# Altium integrated library Dallas Communication ADPCM Processor.IntLib: 4 symbols
Pins are listed as number, name and electrical type; pins without a type are passive.

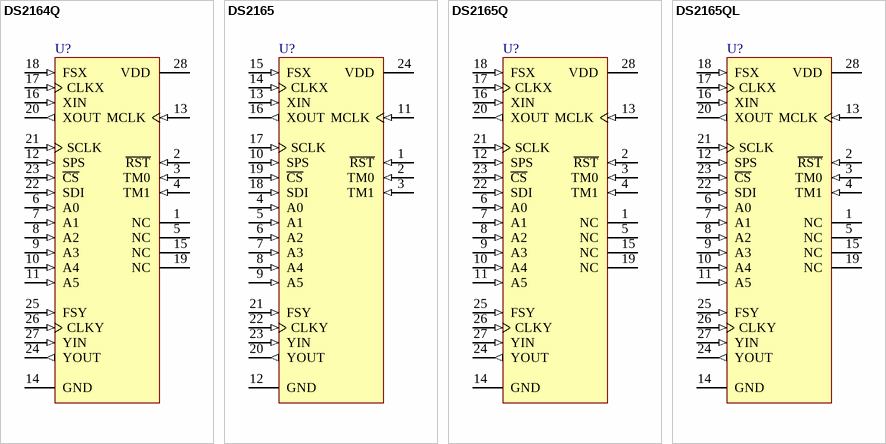
[diagram p0: symbols DS2164Q to DS2165QL]

## DS2164Q
designator U?
G.726 ADPCM Processor; Note: Pin numbers 1, 5, 15 and 19 are Not Connected (NC); Published: 13-Oct-2000; LatestRevisionDate: 13-Apr-2006; LatestRevisionNote: IPC-7351 Footprint Added.; DatasheetVersion: 26-Feb-1998; PackageVersion: Rev D, Feb-2006; PackageReference: PLCC28; Publisher: Altium Limited; PackageDescription: 28-Pin Leaded Chip Carrier 1.27 mm Pitch; Code_IPC: PLCC-28; ComponentLink1Description: Manufacturer Link; ComponentLink1URL: http://www.maxim-ic.com/; ComponentLink2Description: Datasheet; ComponentLink2URL: http://pdfserv.maxim-ic.com/en/ds/DS2164Q.pdf
footprint PLCC28_N (Leaded Chip Carrier, 28-Leads, Body 11.5x11.5mm, Pitch 1.27mm, IPC Medium Density)
footprint PLCC28_L (Leaded Chip Carrier, 28-Leads, Body 11.5x11.5mm, Pitch 1.27mm, IPC High Density)
footprint PLCC28_M (Leaded Chip Carrier, 28-Leads, Body 11.5x11.5mm, Pitch 1.27mm, IPC Low Density)
pins: 1 NC, 2 ~{RST} (in), 3 TM0 (in), 4 TM1 (in), 5 NC, 6 A0 (in), 7 A1 (in), 8 A2 (in), 9 A3 (in), 10 A4 (in), 11 A5 (in), 12 SPS (in), 13 MCLK (in), 14 GND (power), 15 NC, 16 XIN (in), 17 CLKX (in), 18 FSX (in), 19 NC, 20 XOUT (out), 21 SCLK (in), 22 SDI (in), 23 ~{CS} (in), 24 YOUT (out), 25 FSY (in), 26 CLKY (in), 27 YIN (in), 28 VDD (power)

## DS2165
designator U?
16/24/32kpbs ADPCM Processor; Published: 13-Oct-2000; LatestRevisionDate: 17-Jul-2002; LatestRevisionNote: Re-released for DXP Platform.; DatasheetVersion: 22-Sep-1999; PackageVersion: 1999; PackageReference: DIP24W; Publisher: Altium Limited; PackageDescription: DIP, 24-Pin, Row Spacing 15.24 mm, Pitch 2.54 mm; ComponentLink1Description: Manufacturer Link; ComponentLink1URL: http://www.maxim-ic.com/; ComponentLink2Description: Datasheet; ComponentLink2URL: http://pdfserv.maxim-ic.com/en/ds/DS2165-DS2165Q.pdf
footprint DIP24W (DIP, 24-Leads, Row Spacing 15.24mm, Pitch 2.54mm, Body 31.94x13.72mm)
pins: 1 ~{RST} (in), 2 TM0 (in), 3 TM1 (in), 4 A0 (in), 5 A1 (in), 6 A2 (in), 7 A3 (in), 8 A4 (in), 9 A5 (in), 10 SPS (in), 11 MCLK (in), 12 GND (power), 13 XIN (in), 14 CLKX (in), 15 FSX (in), 16 XOUT (out), 17 SCLK (in), 18 SDI (in), 19 ~{CS} (in), 20 YOUT (out), 21 FSY (in), 22 CLKY (in), 23 YIN (in), 24 VDD (power)

## DS2165Q
designator U?
16/24/32kpbs ADPCM Processor; Note: Pin numbers 1, 5, 15 and 19 are Not Connected (NC); Published: 13-Oct-2000; LatestRevisionDate: 13-Apr-2006; LatestRevisionNote: IPC-7351 Footprint Added.; DatasheetVersion: 22-Sep-1999; PackageVersion: Rev D, Feb-2006; PackageReference: PLCC28; Publisher: Altium Limited; PackageDescription: 28-Pin Leaded Chip Carrier 1.27 mm Pitch; Code_IPC: PLCC-28; ComponentLink1Description: Manufacturer Link; ComponentLink1URL: http://www.maxim-ic.com/; ComponentLink2Description: Datasheet; ComponentLink2URL: http://pdfserv.maxim-ic.com/en/ds/DS2165-DS2165Q.pdf
footprint PLCC28_N (Leaded Chip Carrier, 28-Leads, Body 11.5x11.5mm, Pitch 1.27mm, IPC Medium Density)
footprint PLCC28_L (Leaded Chip Carrier, 28-Leads, Body 11.5x11.5mm, Pitch 1.27mm, IPC High Density)
footprint PLCC28_M (Leaded Chip Carrier, 28-Leads, Body 11.5x11.5mm, Pitch 1.27mm, IPC Low Density)
pins: 1 NC, 2 ~{RST} (in), 3 TM0 (in), 4 TM1 (in), 5 NC, 6 A0 (in), 7 A1 (in), 8 A2 (in), 9 A3 (in), 10 A4 (in), 11 A5 (in), 12 SPS (in), 13 MCLK (in), 14 GND (power), 15 NC, 16 XIN (in), 17 CLKX (in), 18 FSX (in), 19 NC, 20 XOUT (out), 21 SCLK (in), 22 SDI (in), 23 ~{CS} (in), 24 YOUT (out), 25 FSY (in), 26 CLKY (in), 27 YIN (in), 28 VDD (power)

## DS2165QL
designator U?
16/24/32kpbs ADPCM Processor; Note: Pin numbers 1, 5, 15 and 19 are Not Connected (NC); Published: 13-Oct-2000; LatestRevisionDate: 13-Apr-2006; LatestRevisionNote: IPC-7351 Footprint Added.; DatasheetVersion: 22-Sep-1999; PackageVersion: Rev D, Feb-2006; PackageReference: PLCC28; Publisher: Altium Limited; PackageDescription: 28-Pin Leaded Chip Carrier 1.27 mm Pitch; Code_IPC: PLCC-28; ComponentLink1Description: Manufacturer Link; ComponentLink1URL: http://www.maxim-ic.com/; ComponentLink2Description: Datasheet; ComponentLink2URL: http://pdfserv.maxim-ic.com/en/ds/DS2165-DS2165Q.pdf
footprint PLCC28_N (Leaded Chip Carrier, 28-Leads, Body 11.5x11.5mm, Pitch 1.27mm, IPC Medium Density)
footprint PLCC28_L (Leaded Chip Carrier, 28-Leads, Body 11.5x11.5mm, Pitch 1.27mm, IPC High Density)
footprint PLCC28_M (Leaded Chip Carrier, 28-Leads, Body 11.5x11.5mm, Pitch 1.27mm, IPC Low Density)
pins: 1 NC, 2 ~{RST} (in), 3 TM0 (in), 4 TM1 (in), 5 NC, 6 A0 (in), 7 A1 (in), 8 A2 (in), 9 A3 (in), 10 A4 (in), 11 A5 (in), 12 SPS (in), 13 MCLK (in), 14 GND (power), 15 NC, 16 XIN (in), 17 CLKX (in), 18 FSX (in), 19 NC, 20 XOUT (out), 21 SCLK (in), 22 SDI (in), 23 ~{CS} (in), 24 YOUT (out), 25 FSY (in), 26 CLKY (in), 27 YIN (in), 28 VDD (power)